# Altium schematic symbol library CN HDR 4POS JST SH_SR.SchLib: 1 symbol
Pins are listed as number, name and electrical type; pins without a type are passive.

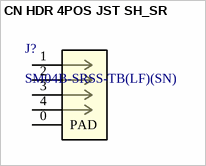
[diagram p0: symbol CN HDR 4POS JST SH_SR]

## CN HDR 4POS JST SH_SR
designator J?, comment SM04B-SRSS-TB(LF)(SN)
CONN HEADER SMD R/A 4POS 1MM; Mfr_Name: JST; Copyright: Copyright (C) 2023 Ultra Librarian. All rights reserved.; Manufacturer_Part_Number: SM04B-SRSS-TB(LF)(SN); Digi-Key_Part_Number_1: 455-1804-2-ND; Digi-Key_Part_Number_2: 455-1804-1-ND; Digi-Key_Part_Number_3: 455-1804-6-ND; RefDes: RefDes; Type: DEV
footprint CONN_SM04B_JST
pins: 0 PAD, 1, 2, 3, 4